# EAGLE library part TMC6300-LA (library TMC6300-LA)
Highly Efficient Low Voltage, Zero Standby Current Driver for 3-Phase BLDC/PMSM Motors up to 2A peak, Triple Half-Bridge with separate HS and LS control signals Source: Datasheet <https://www.analog.com/TMC6300/datasheet>
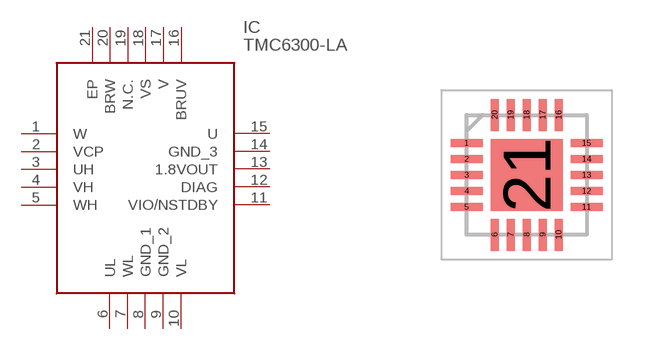
[diagram p0: symbol with the pads of QFN40P300X300X90-21N; footprint QFN40P300X300X90-21N]

Designator prefix IC

## TMC6300-LA (Arrow_Part_Number: TMC6300-LA; Arrow_Price-Stock: https://www.arrow.com/en/products/tmc6300-la/analog-devices?region=nac; Description: Highly Efficient Low Voltage, Zero Standby Current Driver for 3-Phase BLDC/PMSM Motors up to 2A peak, Triple Half-Bridge with separate HS and LS control signals; Height: 0.9mm; Manufacturer_Name: Analog Devices; Manufacturer_Part_Number: TMC6300-LA; Mouser_Part_Number: 700-TMC6300-LA; Mouser_Price-Stock: https://www.mouser.co.uk/ProductDetail/ADI-Trinamic/TMC6300-LA?qs=QNEnbhJQKvYIagO3WUG%252BYg%3D%3D)  [QFN40P300X300X90-21N]
1  W
2  VCP
3  UH
4  VH
5  WH
6  UL
7  WL
8  GND_1
9  GND_2
10  VL
11  VIO/NSTDBY
12  DIAG
13  1.8VOUT
14  GND_3
15  U
16  BRUV
17  V
18  VS
19  N.C.  nc
20  BRW
21  EP

## Footprint QFN40P300X300X90-21N (pad centres in mm)
QFN20_2023
smd 0.8 x 0.2: 1 -1.5,0.8; 2 -1.5,0.4; 3 -1.5,0; 4 -1.5,-0.4; 5 -1.5,-0.8; 11 1.5,-0.8; 12 1.5,-0.4; 13 1.5,0; 14 1.5,0.4; 15 1.5,0.8
smd 0.2 x 0.8: 6 -0.8,-1.5; 7 -0.4,-1.5; 8 0,-1.5; 9 0.4,-1.5; 10 0.8,-1.5; 16 0.8,1.5; 17 0.4,1.5; 18 0,1.5; 19 -0.4,1.5; 20 -0.8,1.5
smd 1.8 x 1.8: 21 0,0